# Altium schematic symbol library thomas_ds3231.SchLib: 2 symbols
Pins are listed as number, name and electrical type; pins without a type are passive.

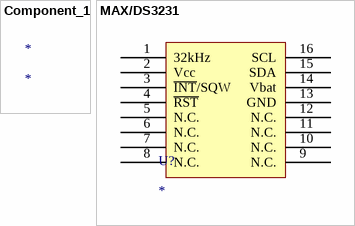
[diagram p0: symbols Component_1 to MAX/DS3231]

## Component_1
designator *

## MAX/DS3231
designator U?
MAX DS3231
footprint SOIC16 - DS3231 (SOIC, 16-Leads, Body 10.5x7.6mm (max), Pitch 1.27mm, IPC Medium Density)
pins: 1 32kHz, 2 Vcc, 3 ~{INT}/SQW, 4 ~{RST}, 5 N.C., 6 N.C., 7 N.C., 8 N.C., 9 N.C., 10 N.C., 11 N.C., 12 N.C., 13 GND, 14 Vbat, 15 SDA, 16 SCL